# Altium footprint library IC_SMD_DUAL.PCBLIB: 187 footprints (part 11 of 12)
Each footprint in its own frame and in the unit in brackets; x right, y up, seen from the top. Pads: shape width x height; smd on the part's side, far side on the other; paste and mask are expansions set on the pad; w line width, h text height; cw(c..) or ccw(c..) is an arc to the next point about the centre after c.
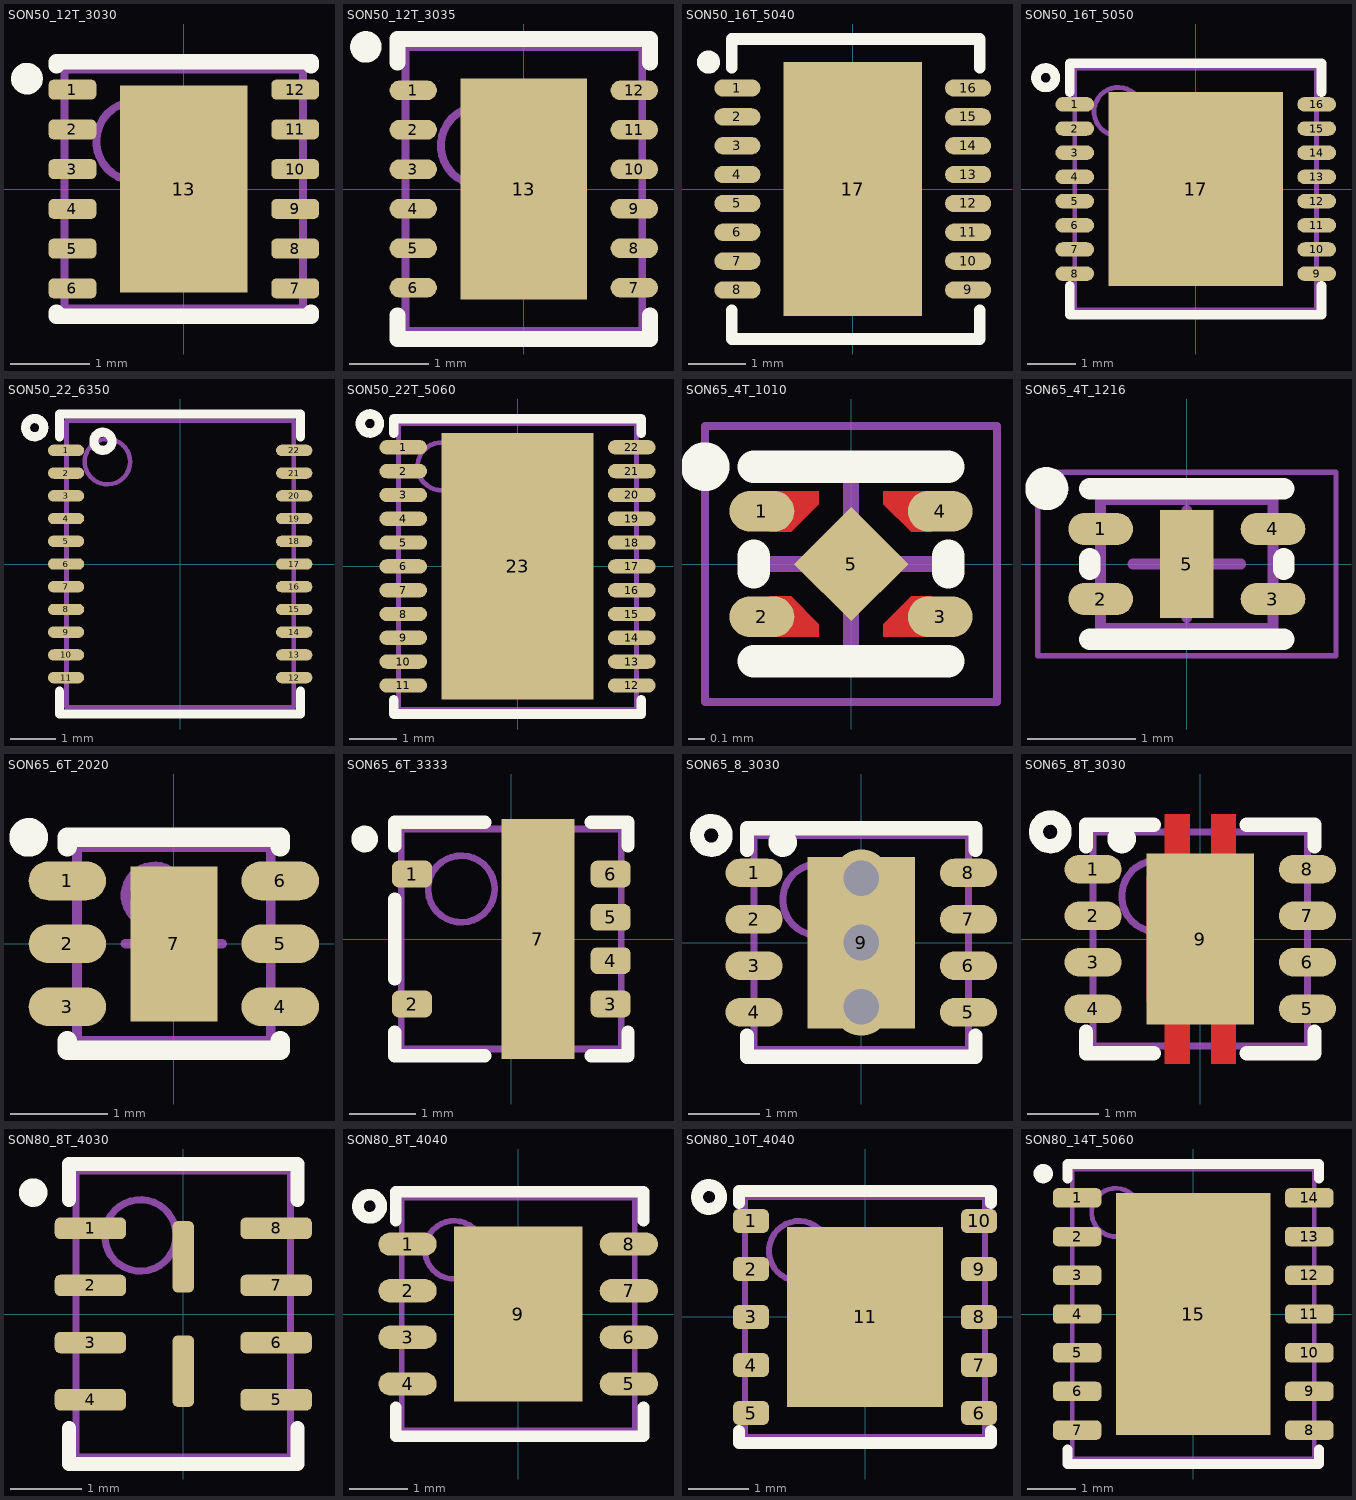
[diagram p10: the footprints below, top view; thin cyan lines are the x and y axes]

## SON50_12T_3030 [mm] "WSON-12, DRR, 0.5mm pitch, 3x3x0.8mm"
height 0.8
pads (13):
  rrect50% 0.6x0.25 smd mask+0.075: 1(-1.4,1.25) 2(-1.4,0.75) 3(-1.4,0.25) 4(-1.4,-0.25) 5(-1.4,-0.75) 6(-1.4,-1.25) 7(1.4,-1.25) 8(1.4,-0.75) 9(1.4,-0.25) 10(1.4,0.25) 11(1.4,0.75) 12(1.4,1.25)
  rect 1.6x2.6 smd paste-0.85 mask+0.075: 13(0,0)
TopOverlay:
  circle w0.2: c-1.972,1.387 r0.1
  lines w0.2: -1.6,-1.55 -1.6,-1.6 1.6,-1.6 1.6,-1.55 ; -1.6,1.55 -1.6,1.6 1.6,1.6 1.6,1.55
TopPaste:
  region: 0.7,-0.8 0.1,-0.8 0.1,-1.2 0.7,-1.2
  rectangle: -0.7,-1.2 -0.1,-0.8
  rectangle: -0.7,0.1 -0.1,0.6
  rectangle: -0.7,0.8 -0.1,1.2
  region: 0.7,1.2 0.1,1.2 0.1,0.8 0.7,0.8
  region: 0.7,0.6 0.1,0.6 0.1,0.1 0.7,0.1
  region: 0.7,-0.1 0.1,-0.1 0.1,-0.6 0.7,-0.6
  rectangle: -0.7,-0.6 -0.1,-0.1
Mechanical13:
  circle w0.1: c-0.6,0.6 r0.5
  lines w0.1: -1.5,-1.5 1.5,-1.5 1.5,1.5 -1.5,1.5 -1.5,-1.5
3D body "DRR0012D.stp": height 0.77, standoff 0, extent -1.5,-1.5 1.5,1.5

## SON50_12T_3035 [mm] "SON, DSON, DFN, pitch: 0.5mm, 3.5x3mm"
pads (13):
  oval 0.6x0.25 smd mask+0.075: 1(-1.4,1.25) 2(-1.4,0.75) 3(-1.4,0.25) 4(-1.4,-0.25) 5(-1.4,-0.75) 6(-1.4,-1.25) 7(1.4,-1.25) 8(1.4,-0.75) 9(1.4,-0.25) 10(1.4,0.25) 11(1.4,0.75) 12(1.4,1.25)
  rect 1.6x2.8 smd paste-2 mask+0.075: 13(0,0)
TopOverlay:
  circle w0.2: c-2,1.8 r0.1
  lines w0.2: -1.6,-1.6 -1.6,-1.9 1.6,-1.9 1.6,-1.6 ; -1.6,1.6 -1.6,1.9 1.6,1.9 1.6,1.6
TopPaste:
  rectangle: -0.7,0.1 -0.1,0.6
  rectangle: -0.7,0.8 -0.1,1.3
  region: 0.7,1.3 0.1,1.3 0.1,0.8 0.7,0.8
  region: 0.7,0.6 0.1,0.6 0.1,0.1 0.7,0.1
  region: 0.7,-0.1 0.1,-0.1 0.1,-0.6 0.7,-0.6
  region: 0.7,-0.8 0.1,-0.8 0.1,-1.3 0.7,-1.3
  rectangle: -0.7,-1.3 -0.1,-0.8
  rectangle: -0.7,-0.6 -0.1,-0.1
Mechanical13:
  circle w0.1: c-0.55,0.55 r0.5
  lines w0.1: -1.5,-1.8 -1.5,1.8 1.5,1.8 1.5,-1.8 -1.5,-1.8
3D body: height 1, standoff 0, extent -1.5,-1.8 1.5,1.8

## SON50_16T_5040 [mm] "DHD DFN-16, 5X4mm, 0.5mm pitch"
height 0.8
pads (17):
  oval 0.8x0.3 smd mask+0.05: 1(-2,1.75) 2(-2,1.25) 3(-2,0.75) 4(-2,0.25) 5(-2,-0.25) 6(-2,-0.75) 7(-2,-1.25) 8(-2,-1.75) 9(2,-1.75) 10(2,-1.25) 11(2,-0.75) 12(2,-0.25) 13(2,0.25) 14(2,0.75) 15(2,1.25) 16(2,1.75)
  rect 2.4x4.4 smd paste-3: 17(0,0)
TopOverlay:
  circle w0.2: c-2.5,2.2 r0.1
  lines w0.2: -2.1,-2.1 -2.1,-2.6 2.2,-2.6 2.2,-2.1 ; -2.1,2.1 -2.1,2.6 2.2,2.6 2.2,2.1
TopPaste:
  rectangle: -1,0.9 -0.2,1.9
  rectangle: 0.2,0.9 1,1.9
  rectangle: 0.2,-0.5 1,0.5
  rectangle: -1,-0.5 -0.2,0.5
  rectangle: 0.2,-1.9 1,-0.9
  rectangle: -1,-1.9 -0.2,-0.9
3D body "DFN-16-5x4-0_5.STEP": height 0.8, standoff 0, extent -2.06,-2.55 2.06,2.55

## SON50_16T_5050 [mm] "WSON16, 5X5mm, 0.5mm pitch"
height 0.8
pads (17):
  oval 0.8x0.3 smd mask+0.05: 1(-2.5,1.75) 2(-2.5,1.25) 3(-2.5,0.75) 4(-2.5,0.25) 5(-2.5,-0.25) 6(-2.5,-0.75) 7(-2.5,-1.25) 8(-2.5,-1.75) 9(2.5,-1.75) 10(2.5,-1.25) 11(2.5,-0.75) 12(2.5,-0.25) 13(2.5,0.25) 14(2.5,0.75) 15(2.5,1.25) 16(2.5,1.75)
  rect 3.6x4 smd paste-3: 17(0,0)
TopOverlay:
  circle w0.2: c-3.1,2.3 r0.2
  lines w0.2: -2.6,-2 -2.6,-2.6 2.6,-2.6 2.6,-2 ; -2.6,2 -2.6,2.6 2.6,2.6 2.6,2
TopPaste:
  rectangle: -1.7,0.765 -0.7,1.895
  rectangle: -1.7,-0.565 -0.7,0.565
  rectangle: -1.7,-1.895 -0.7,-0.765
  rectangle: -0.5,0.765 0.5,1.895
  rectangle: -0.5,-0.565 0.5,0.565
  rectangle: -0.5,-1.895 0.5,-0.765
  rectangle: 0.7,0.765 1.7,1.895
  rectangle: 0.7,-0.565 1.7,0.565
  rectangle: 0.7,-1.895 1.7,-0.765
Mechanical13:
  circle w0.1: c-1.6,1.6 r0.5
  lines w0.1: -2.5,-2.5 -2.5,2.5 2.5,2.5 2.5,-2.5 -2.5,-2.5
3D body "SON50_16T.step": height 0.8, standoff 0, extent -2.501,-2.5 2.501,2.5

## SON50_22_6350 [mm] "SON-22, 0.5mm pitch, 5x6.3x1.3mm"
height 1.3
pads (22):
  oval 0.8x0.25 smd mask+0.075: 1(-2.51,2.5) 2(-2.51,2) 3(-2.51,1.5) 4(-2.51,1) 5(-2.51,0.5) 6(-2.51,0) 7(-2.51,-0.5) 8(-2.51,-1) 9(-2.51,-1.5) 10(-2.51,-2) 11(-2.51,-2.5) 12(2.51,-2.5) 13(2.51,-2) 14(2.51,-1.5) 15(2.51,-1) 16(2.51,-0.5) 17(2.51,0) 18(2.51,0.5) 19(2.51,1) 20(2.51,1.5) 21(2.51,2) 22(2.51,2.5)
TopOverlay:
  circle w0.2: c-3.2,3 r0.2
  circle w0.2: c-1.7,2.7 r0.2
  lines w0.2: -2.65,-2.8 -2.65,-3.3 2.65,-3.3 2.65,-2.8 ; -2.65,2.8 -2.65,3.3 2.65,3.3 2.65,2.8
Mechanical13:
  circle w0.1: c-1.6,2.25 r0.5
  lines w0.1: -2.5,-3.15 -2.5,3.15 2.5,3.15 2.5,-3.15 -2.5,-3.15
3D body "SON50_22_5063.step": height 1.3, standoff 0, extent -2.501,-3.15 2.501,3.15

## SON50_22T_5060 [mm] "DQP, PQFN-22, SON-22, 5X6X1.5mm, 0.5mm pitch"
height 1.5
pads (23):
  oval 1x0.3 smd mask+0.075: 1(-2.4,2.5) 2(-2.4,2) 3(-2.4,1.5) 4(-2.4,1) 5(-2.4,0.5) 6(-2.4,0) 7(-2.4,-0.5) 8(-2.4,-1) 9(-2.4,-1.5) 10(-2.4,-2) 11(-2.4,-2.5) 12(2.4,-2.5) 13(2.4,-2) 14(2.4,-1.5) 15(2.4,-1) 16(2.4,-0.5) 17(2.4,0) 18(2.4,0.5) 19(2.4,1) 20(2.4,1.5) 21(2.4,2) 22(2.4,2.5)
  rect 3.2x5.6 smd paste-1.6: 23(0,0)
TopOverlay:
  circle w0.2: c-3.1,3 r0.2
  lines w0.2: -2.6,-2.8 -2.6,-3.1 2.6,-3.1 2.6,-2.8 ; -2.6,2.8 -2.6,3.1 2.6,3.1 2.6,2.8
TopPaste:
  rectangle: 0.1,-2.6 1.5,-1.45
  rectangle: 0.1,-1.25 1.5,-0.1
  rectangle: 0.1,0.1 1.5,1.25
  rectangle: 0.1,1.45 1.5,2.6
  rectangle: -1.5,-2.6 -0.1,-1.45
  rectangle: -1.5,-1.25 -0.1,-0.1
  rectangle: -1.5,0.1 -0.1,1.25
  rectangle: -1.5,1.45 -0.1,2.6
Mechanical13:
  circle w0.1: c-1.6,2.1 r0.5
  lines w0.1: -2.5,-3 2.5,-3 2.5,3 -2.5,3 -2.5,-3
3D body "SON127P600-8N.step": height 1.5, standoff 0, extent -2.501,-3 2.501,3

## SON65_4T_1010 [mm] "X2SON, DQN, DFN(PLP)1010-4, DFN1010C-4, 1.0X1.0mm, 0.65mm pitch"
height 0.6
pads (5):
  oval 0.4x0.25 smd mask+0.05: 1(-0.55,0.325) 2(-0.55,-0.325) 3(0.55,-0.325) 4(0.55,0.325)
  rect 0.5x0.5 smd rot 45 mask+0.05: 5(0,0)
TopLayer:
  region: -0.5,0.45 -0.2,0.45 -0.2,0.37 -0.37,0.2 -0.5,0.2
  region: -0.5,-0.45 -0.2,-0.45 -0.2,-0.37 -0.37,-0.2 -0.5,-0.2
  region: 0.5,-0.45 0.2,-0.45 0.2,-0.37 0.37,-0.2 0.5,-0.2
  region: 0.5,0.45 0.2,0.45 0.2,0.37 0.37,0.2 0.5,0.2
TopOverlay:
  circle w0.2: c-0.9,0.6 r0.05
  lines w0.2: -0.6,-0.6 0.6,-0.6 ; -0.6,-0.05 -0.6,0.05 ; -0.6,0.6 0.6,0.6 ; 0.6,-0.05 0.6,0.05
TopSolder:
  region: -0.5,0.5 -0.15,0.5 -0.15,0.37 -0.37,0.15 -0.5,0.15
  region: -0.5,-0.5 -0.15,-0.5 -0.15,-0.37 -0.37,-0.15 -0.5,-0.15
  region: 0.5,-0.5 0.15,-0.5 0.15,-0.37 0.37,-0.15 0.5,-0.15
  region: 0.5,0.5 0.15,0.5 0.15,0.37 0.37,0.15 0.5,0.15
Mechanical15:
  lines w0.05: -0.9,-0.85 0.9,-0.85 0.9,0.85 -0.9,0.85 -0.9,-0.85
  lines w0.1: -0.5,0 0.5,0 ; 0,-0.5 0,0.5
3D body: height 0.2, standoff 0, extent 0.2,0.2 0.51,0.45
3D body: height 0.2, standoff 0, extent 0.2,-0.45 0.51,-0.2
3D body: height 0.2, standoff 0, extent -0.51,-0.45 -0.2,-0.2
3D body: height 0.61, standoff 0.6, extent -0.4,0.2 -0.2,0.4
3D body: height 0.6, standoff 0.01, extent -0.5,-0.5 0.5,0.5
3D body: height 0.1, standoff 0, extent -0.354,-0.353 0.354,0.354
3D body: height 0.2, standoff 0, extent -0.51,0.2 -0.2,0.45

## SON65_4T_1216 [mm] "DFN4-1216-0.65, DFN(PLP)1612-4, 1.2X1.6mm, 0.65mm pitch"
height 0.6
pads (5):
  oval 0.6x0.3 smd mask+0.075: 1(-0.8,0.325) 2(-0.8,-0.325) 3(0.8,-0.325) 4(0.8,0.325)
  rect 0.5x1 smd paste-0.05 mask+0.05: 5(0,0)
TopOverlay:
  circle w0.2: c-1.3,0.7 r0.1
  lines w0.2: -0.9,-0.7 0.9,-0.7 ; -0.9,-0.05 -0.9,0.05 ; -0.9,0.7 0.9,0.7 ; 0.9,-0.05 0.9,0.05
Mechanical13:
  lines w0.1: -0.8,-0.6 -0.8,0.6 0.8,0.6 0.8,-0.6 -0.8,-0.6
Mechanical15:
  lines w0.05: -1.385,-0.85 -1.385,0.85 1.385,0.85 1.385,-0.85 -1.385,-0.85
  lines w0.1: -0.5,0 0.5,0 ; 0,-0.5 0,0.5
3D body "User Library-DFN4-1216-0.step": height 0.5, standoff 0, extent -0.8,-0.6 0.8,0.6

## SON65_6T_2020 [mm] "DRV PWSON DFN6 Pitch: 0.65mm 2x2x1.1mm"
height 1.1
pads (7):
  oval 0.8x0.4 smd mask+0.075: 1(-1.1,0.65) 2(-1.1,0) 3(-1.1,-0.65) 4(1.1,-0.65) 5(1.1,0) 6(1.1,0.65)
  rect 0.9x1.6 smd paste-0.05 mask+0.075: 7(0,0)
TopOverlay:
  circle w0.2: c-1.5,1.1 r0.1
  lines w0.2: -1.1,-1 -1.1,-1.1 1.1,-1.1 1.1,-1 ; -1.1,1 -1.1,1.1 1.1,1.1 1.1,1
Mechanical13:
  circle w0.1: c-0.2,0.5 r0.3
  lines w0.1: -1,-1 1,-1 1,1 -1,1 -1,-1
Mechanical15:
  lines w0.1: -0.5,0 0.5,0 ; 0,-0.5 0,0.5
3D body "SON65_6T_S200.step": height 0.75, standoff 0, extent -1.001,-1 1.001,1

## SON65_6T_3333 [mm] "506DF, DFN6 3.3x3.3, 0.65P"
height 0.9
pads (7):
  rrect50% 0.6x0.4 smd mask+0.075: 1(-1.49,0.975) 2(-1.49,-0.975) 3(1.49,-0.975) 4(1.49,-0.325) 5(1.49,0.325) 6(1.49,0.975)
  rect 1.1x3.6 smd paste-5 mask+0.075: 7(0.4,0)
TopOverlay:
  circle w0.2: c-2.2,1.5 r0.1
  lines w0.2: -1.75,-1.4 -1.75,-1.75 -0.4,-1.75 ; -1.75,-0.6 -1.75,0.6 ; -1.75,1.4 -1.75,1.75 -0.4,1.75 ; 1.2,-1.75 1.75,-1.75 1.75,-1.4 ; 1.2,1.75 1.75,1.75 1.75,1.4
TopPaste:
  rectangle: 0,-1.6 0.8,-0.2
  rectangle: 0,0.2 0.8,1.6
Mechanical13:
  circle w0.1: c-0.75,0.75 r0.5
  lines w0.1: -1.65,-1.65 -1.65,1.65 1.65,1.65 1.65,-1.65 -1.65,-1.65
3D body "SON65_6_3333.step": height 0.9, standoff 0, extent -1.651,-1.65 1.651,1.65

## SON65_8_3030 [mm] "LFCSP_WD, CP-8-15, 3.00x3.00mm, Pitch 0.65mm"
height 1
pads (9):
  oval 0.8x0.4 smd mask+0.075: 1(-1.5,0.975) 2(-1.5,0.325) 3(-1.5,-0.325) 4(-1.5,-0.975) 5(1.5,-0.975) 6(1.5,-0.325) 7(1.5,0.325) 8(1.5,0.975)
  rect 1.5x2.4 smd: 9(0,0)
via 0,-0.9 diameter 0.8 hole 0.5
via 0,0.9 diameter 0.8 hole 0.5
via 0,0 diameter 0.8 hole 0.5
TopOverlay:
  circle w0.2: c-1.1,1.4 r0.1
  circle w0.2: c-2.1,1.5 r0.2
  lines w0.2: -1.6,-1.3 -1.6,-1.6 1.6,-1.6 1.6,-1.3 ; -1.6,1.3 -1.6,1.6 1.6,1.6 1.6,1.3
Mechanical13:
  circle w0.1: c-0.6,0.6 r0.5
  lines w0.1: -1.5,-1.5 1.5,-1.5 1.5,1.5 -1.5,1.5 -1.5,-1.5
3D body: height 0.2, standoff 0, extent 1.075,-1.125 1.575,-0.825
3D body: height 0.2, standoff 0, extent 1.075,-0.475 1.575,-0.175
3D body: height 0.2, standoff 0, extent 1.075,0.175 1.575,0.475
3D body: height 0.2, standoff 0, extent 1.075,0.825 1.575,1.125
3D body: height 1.01, standoff 1, extent -1.4,1 -1,1.4
3D body: height 0.2, standoff 0, extent -1.575,0.825 -1.075,1.125
3D body: height 0.2, standoff 0, extent -1.575,0.175 -1.075,0.475
3D body: height 0.2, standoff 0, extent -1.575,-0.475 -1.075,-0.175
3D body: height 0.2, standoff 0, extent -1.575,-1.125 -1.075,-0.825
3D body: height 1, standoff 0.05, extent -1.5,-1.5 1.5,1.5

## SON65_8T_3030 [mm] "DRB PVSON8 (TI), 3.00x3.00mm, Pitch 0.65mm"
height 1
pads (9):
  oval 0.8x0.4 smd mask+0.075: 1(-1.5,0.975) 2(-1.5,0.325) 3(-1.5,-0.325) 4(-1.5,-0.975) 5(1.5,-0.975) 6(1.5,-0.325) 7(1.5,0.325) 8(1.5,0.975)
  rect 1.5x2.4 smd paste-1.2: 9(0,0)
TopLayer:
  region: -0.5,-1.75 -0.5,-0.875 -0.75,-0.875 -0.75,0.875 -0.5,0.875 -0.5,1.75 -0.15,1.75 -0.15,0.875 0.15,0.875 0.15,1.75 0.5,1.75 0.5,0.875 0.75,0.875 0.75,-0.875 0.5,-0.875 0.5,-1.75 0.15,-1.75 0.15,-0.875 -0.15,-0.875 -0.15,-1.75
TopOverlay:
  circle w0.2: c-1.1,1.4 r0.1
  circle w0.2: c-2.1,1.5 r0.2
  lines w0.2: -1.6,-1.3 -1.6,-1.6 -0.65,-1.6 ; -1.6,1.3 -1.6,1.6 -0.65,1.6 ; 0.65,-1.6 1.6,-1.6 1.6,-1.3 ; 0.65,1.6 1.6,1.6 1.6,1.3
TopPaste:
  rectangle: -0.6,0.2 0.6,1
  rectangle: -0.5,1.3 -0.15,1.75
  region: 0.5,1.75 0.15,1.75 0.15,1.3 0.5,1.3
  region: 0.5,-1.3 0.15,-1.3 0.15,-1.75 0.5,-1.75
  rectangle: -0.5,-1.75 -0.15,-1.3
  rectangle: -0.6,-1 0.6,-0.2
TopSolder:
  region: -0.55,-1.8 -0.55,-0.875 -0.75,-0.875 -0.75,0.875 -0.55,0.875 -0.55,1.8 -0.1,1.8 -0.1,0.875 0.1,0.875 0.1,1.8 0.55,1.8 0.55,0.875 0.75,0.875 0.75,-0.875 0.55,-0.875 0.55,-1.8 0.1,-1.8 0.1,-0.875 -0.1,-0.875 -0.1,-1.8
Mechanical13:
  circle w0.1: c-0.6,0.6 r0.5
  lines w0.1: -1.5,-1.5 1.5,-1.5 1.5,1.5 -1.5,1.5 -1.5,-1.5
3D body "DRB0008A.stp": height 0.77, standoff 0, extent -1.5,-1.5 1.5,1.5

## SON80_8T_4030 [mm] "USON-8 4x3mm, Pitch 0.80mm"
height 0.6
pads (10):
  rrect50% 1x0.3 smd: 1(-1.3,1.2) 2(-1.3,0.4) 3(-1.3,-0.4) 4(-1.3,-1.2) 5(1.3,-1.2) 6(1.3,-0.4) 7(1.3,0.4) 8(1.3,1.2)
  rrect50% 0.3x1 smd: ""(0,-0.8) ""(0,0.8)
TopOverlay:
  circle w0.2: c-2.1,1.7 r0.1
  lines w0.2: -1.6,-1.6 -1.6,-2.1 1.6,-2.1 1.6,-1.6 ; -1.6,1.6 -1.6,2.1 1.6,2.1 1.6,1.6
Mechanical13:
  circle w0.1: c-0.6,1.1 r0.5
  lines w0.1: -1.5,-2 -1.5,2 1.5,2 1.5,-2 -1.5,-2
3D body "SON80_8T_4030.step": height 0.6, standoff 0, extent -1.501,-2 1.501,2

## SON80_8T_4040 [mm] "SON, DFN8, WSON-8, 8-Leads, Body 4x4mm, Pitch 0.80mm"
height 1
pads (9):
  oval 1x0.4 smd: 1(-1.9,1.2) 2(-1.9,0.4) 3(-1.9,-0.4) 4(-1.9,-1.2) 5(1.9,-1.2) 6(1.9,-0.4) 7(1.9,0.4) 8(1.9,1.2)
  rect 2.2x3 smd paste-1.1: 9(0,0)
TopOverlay:
  circle w0.2: c-2.55,1.85 r0.2
  lines w0.2: -2.1,-1.6 -2.1,-2.1 2.15,-2.1 2.15,-1.6 ; -2.1,1.6 -2.1,2.1 2.15,2.1 2.15,1.6
TopPaste:
  rectangle: 0.1,-1.4 1,-0.1
  rectangle: 0.1,0.1 1,1.4
  rectangle: -1,-1.4 -0.1,-0.1
  rectangle: -1,0.1 -0.1,1.4
Mechanical13:
  circle w0.1: c-1.1,1.1 r0.5
  lines w0.1: -2,-2 2,-2 2,2 -2,2 -2,-2
3D body: height 1, standoff 0, extent -2,-2 2,2

## SON80_10T_4040 [mm] "DPR WSON10, 10-Leads, 4x4mm, Pitch 0.80mm"
height 0.8
pads (11):
  rrect50% 0.6x0.4 smd mask+0.075: 1(-1.9,1.6) 2(-1.9,0.8) 3(-1.9,0) 4(-1.9,-0.8) 5(-1.9,-1.6) 6(1.9,-1.6) 7(1.9,-0.8) 8(1.9,0) 9(1.9,0.8) 10(1.9,1.6)
  rect 2.6x3 smd paste-1.3: 11(0,0)
TopOverlay:
  circle w0.2: c-2.6,2 r0.2
  lines w0.2: -2.1,-1.9 -2.1,-2.1 2.1,-2.1 2.1,-1.9 ; -2.1,1.9 -2.1,2.1 2.1,2.1 2.1,1.9
TopPaste:
  rectangle: 0.1,-1.4 1.2,-0.1
  rectangle: 0.1,0.1 1.2,1.4
  rectangle: -1.2,-1.4 -0.1,-0.1
  rectangle: -1.2,0.1 -0.1,1.4
Mechanical13:
  circle w0.1: c-1.1,1.1 r0.5
  lines w0.1: -2,-2 2,-2 2,2 -2,2 -2,-2
3D body "SON80_10T.step": height 0.8, standoff 0, extent -2.001,-2 2.001,2

## SON80_14T_5060 [mm] "NHM VSON, 0.8mm pitch, 5X6mm"
height 1
pads (15):
  rrect50% 1x0.4 smd mask+0.1: 1(-2.4,2.4) 2(-2.4,1.6) 3(-2.4,0.8) 4(-2.4,0) 5(-2.4,-0.8) 6(-2.4,-1.6) 7(-2.4,-2.4) 8(2.4,-2.4) 9(2.4,-1.6) 10(2.4,-0.8) 11(2.4,0) 12(2.4,0.8) 13(2.4,1.6) 14(2.4,2.4)
  rect 3.2x5 smd paste-1.6: 15(0,0)
TopOverlay:
  circle w0.2: c-3.1,2.9 r0.1
  lines w0.2: -2.6,-2.8 -2.6,-3.1 2.6,-3.1 2.6,-2.8 ; -2.6,2.8 -2.6,3.1 2.6,3.1 2.6,2.8
TopPaste:
  rectangle: -1.5,1.35 -0.1,2.4
  rectangle: -1.5,0.1 -0.1,1.15
  rectangle: -1.5,-1.15 -0.1,-0.1
  rectangle: -1.5,-2.4 -0.1,-1.35
  rectangle: 0.1,1.35 1.5,2.4
  rectangle: 0.1,0.1 1.5,1.15
  rectangle: 0.1,-1.15 1.5,-0.1
  rectangle: 0.1,-2.4 1.5,-1.35
Mechanical13:
  circle w0.1: c-1.6,2.1 r0.5
  lines w0.1: -2.5,-3 -2.5,3 2.5,3 2.5,-3 -2.5,-3
3D body "SON80_14T_.step": height 1, standoff 0, extent -2.501,-3 2.501,3